# EAGLE library part G6S-2F-* (library mylib)
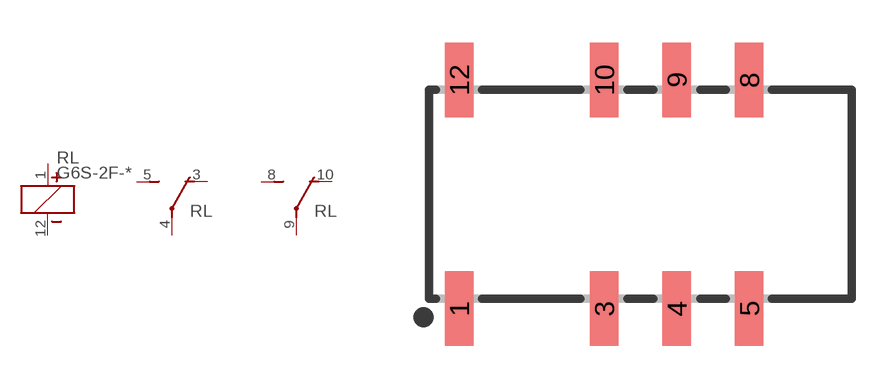
[diagram p137: symbol with the pads of G6S-2F; footprint G6S-2F]

Designator prefix RL; gates G$1=RELAY-COIL-POL G$2=PART-RELAY-SW G$3=PART-RELAY-SW

## G6S-2F-5V  [G6S-2F]
1  G$1:1  pas
3  G$2:NC  pas
4  G$2:COM  pas
5  G$2:NO  pas
8  G$3:NO  pas
9  G$3:COM  pas
10  G$3:NC  pas
12  G$1:2  pas

## Footprint G6S-2F (pad centres in mm)
smd 1 x 2.6: 1 -6.35,-4; 3 -1.27,-4; 4 1.27,-4; 5 3.81,-4; 8 3.81,4; 9 1.27,4; 10 -1.27,4; 12 -6.35,4